# EAGLE library part CD74HC238M (library 000_nl2)
High-Speed CMOS Logic 3- to 8-Line Decoder/Demultiplexer Inverting and Noninverting
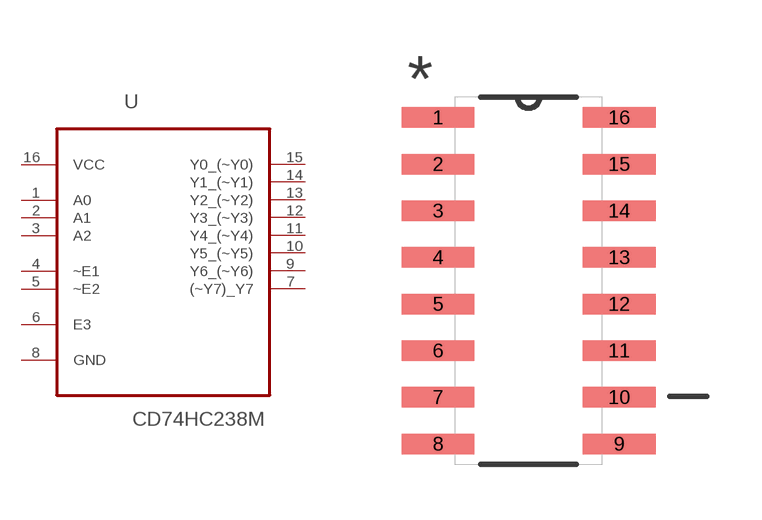
[diagram p4: symbol with the pads of SOIC127P600X175-16N; footprint SOIC127P600X175-16N]

Designator prefix U

## CD74HC238M (MPN: CD74HC238M; OC_FARNELL: 1640756; OC_NEWARK: 66F5206; PACKAGE: SOIC-16; SUPPLIER: Texas Instruments)  [SOIC127P600X175-16N]
1  A0  in
2  A1  in
3  A2  in
4  ~E1  in
5  ~E2  in
6  E3  in
7  (~Y7)_Y7  out
8  GND  pas
9  Y6_(~Y6)  out
10  Y5_(~Y5)  out
11  Y4_(~Y4)  out
12  Y3_(~Y3)  out
13  Y2_(~Y2)  out
14  Y1_(~Y1)  out
15  Y0_(~Y0)  out
16  VCC  in

## Footprint SOIC127P600X175-16N (pad centres in mm)
smd 1.981 x 0.559: 1 -2.464,4.445; 2 -2.464,3.175; 3 -2.464,1.905; 4 -2.464,0.635; 5 -2.464,-0.635; 6 -2.464,-1.905; 7 -2.464,-3.175; 8 -2.464,-4.445; 9 2.464,-4.445; 10 2.464,-3.175; 11 2.464,-1.905; 12 2.464,-0.635; 13 2.464,0.635; 14 2.464,1.905; 15 2.464,3.175; 16 2.464,4.445